# EAGLE library part WIRL-PRO8_2607031281000 (library WE_WIRL_Rev13.0)
Thebe-I WIRL-PRO8 Radio module 868MHz Details see: https://www.we-online.com/katalog/en/article/wco/
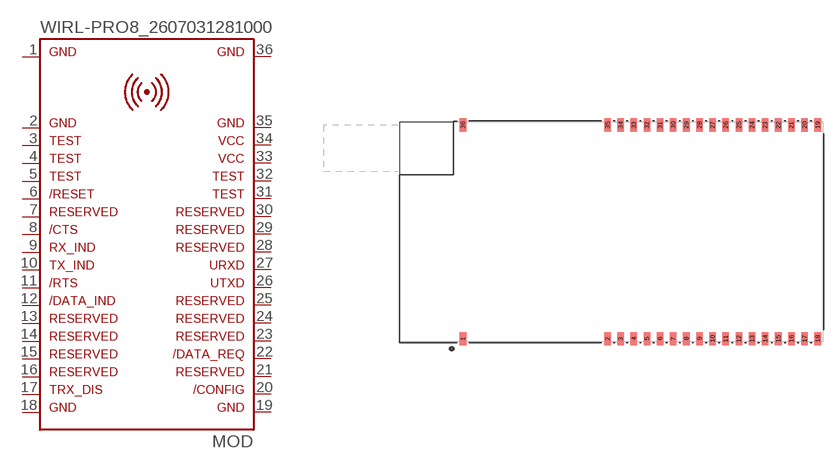
[diagram p25: symbol with the pads of WIRL-PRO8_2607031281000; footprint WIRL-PRO8_2607031281000]

Designator prefix MOD

## WIRL-PRO8_2607031281000 (HEIGHT: 14.65mm; MANUFACTURER: Würth Elektronik; NR: 2607031281001)  [WIRL-PRO8_2607031281000]
1  1  pas
2  2  pas
3  3  pas
4  4  pas
5  5  pas
6  6  in
7  7  pas
8  8  in
9  9  out
10  10  out
11  11  out
12  12  out
13  13  pas
14  14  pas
15  15  pas
16  16  pas
17  17  in
18  18  pas
19  19  pas
20  20  in
21  21  pas
22  22  pas
23  23  pas
24  24  pas
25  25  pas
26  26  out
27  27  in
28  28  pas
29  29  pas
30  30  pas
31  31  pas
32  32  pas
33  33  pas
34  34  pas
35  35  pas
36  36  pas

## Footprint WIRL-PRO8_2607031281000 (pad centres in mm)
Thebe-I WIRL-PRO8 Radio module 868MHz
smd 1 x 2: 1 -27,-16.25; 2 -5,-16.25; 3 -3,-16.25; 4 -1,-16.25; 5 1,-16.25; 6 3,-16.25; 7 5,-16.25; 8 7,-16.25; 9 9,-16.25; 10 11,-16.25; 11 13,-16.25; 12 15,-16.25; 13 17,-16.25; 14 19,-16.25; 15 21,-16.25; 16 23,-16.25; 17 25,-16.25; 18 27,-16.25; 19 27,16.25; 20 25,16.25; 21 23,16.25; 22 21,16.25; 23 19,16.25; 24 17,16.25; 25 15,16.25; 26 13,16.25; 27 11,16.25; 28 9,16.25; 29 7,16.25; 30 5,16.25; 31 3,16.25; 32 1,16.25; 33 -1,16.25; 34 -3,16.25; 35 -5,16.25; 36 -27,16.25